# Altium footprint library TDSON-8.PcbLib: 1 footprints
Each footprint in its own frame and in the unit in brackets; x right, y up, seen from the top. Pads: shape width x height; smd on the part's side, far side on the other; paste and mask are expansions set on the pad; w line width, h text height; cw(c..) or ccw(c..) is an arc to the next point about the centre after c.
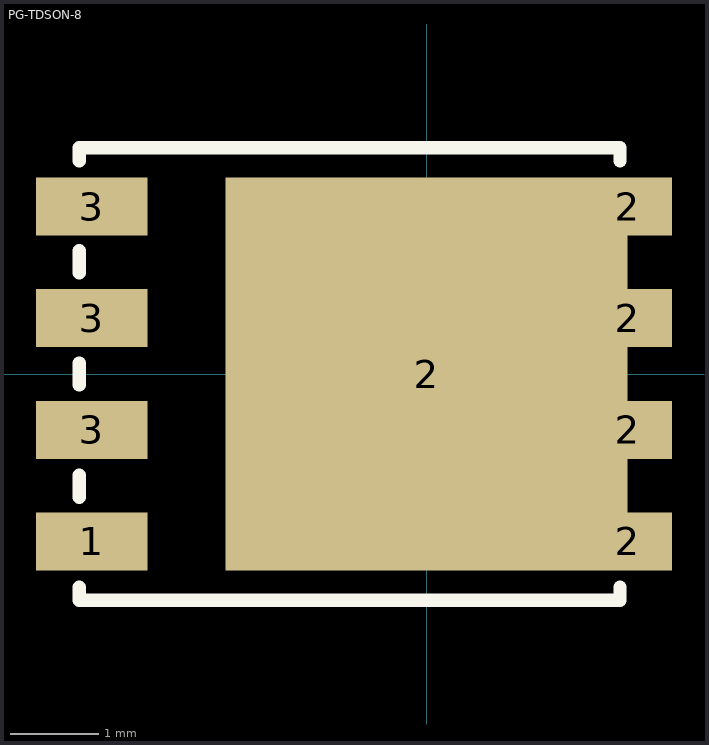
[diagram p0: the footprint, top view; thin cyan lines are the x and y axes]

## PG-TDSON-8 [mil] "Infineon TDSON-8 based on BSC093N04LS"
height 43.31
pads (9):
  rect 50x26 smd mask+4: 1(-150,-75) 3(-150,-25) 3(-150,25) 3(-150,75)
  rect 180x176 smd paste-500 mask+4: 2(0,0)
  rect 40x26 smd mask+4: 2(90,-75) 2(90,-25) 2(90,25) 2(90,75)
Top Overlay:
  lines w6: -155.51,-95.47 -155.51,-101.38 86.61,-101.38 86.61,-95.47 ; -155.51,-55.12 -155.51,-45.28 ; -155.51,-4.92 -155.51,4.92 ; -155.51,45.28 -155.51,55.12 ; -155.51,95.47 -155.51,101.38 86.61,101.38 86.61,95.47
Top Paste:
  rectangle: 5,15 55,65
  rectangle: 5,-65 55,-15
  rectangle: -70,-65 -20,-15
  rectangle: -70,15 -20,65